# EAGLE library part LMD18200 (library steves)
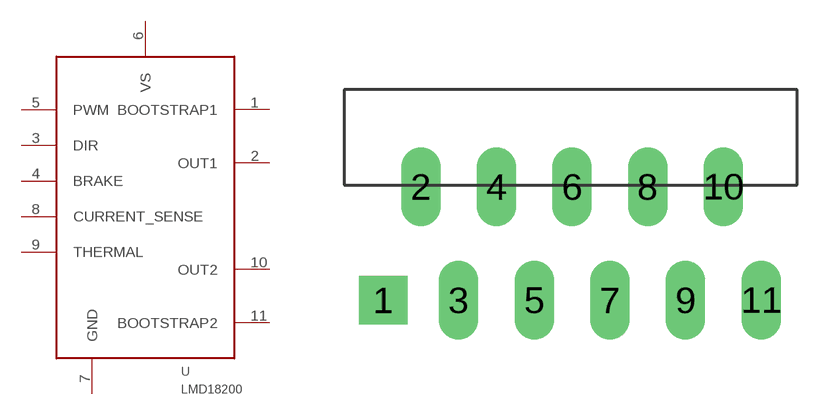
[diagram p0: symbol with the pads of NS-TA11B; footprint NS-TA11B]

Designator prefix U

## LMD18200T  [NS-TA11B]
1  BOOTSTRAP1  in
2  OUT1  out
3  DIR  in
4  BRAKE  in
5  PWM  in
6  VS  pwr
7  GND  pwr
8  CURRENT_SENSE  out
9  THERMAL  out
10  OUT2  out
11  BOOTSTRAP2  in

## Footprint NS-TA11B (pad centres in mm)
drill 1 pad 2.184 square: 1 0,0
drill 1 pad 1.778 long: 2 1.702,5.105; 3 3.404,0; 4 5.105,5.105; 5 6.807,0; 6 8.509,5.105; 7 10.211,0; 8 11.913,5.105; 9 13.614,0; 10 15.316,5.105; 11 17.018,0